# Altium schematic symbol library 21700_Bat.SchLib: 1 symbol
Pins are listed as number, name and electrical type; pins without a type are passive.

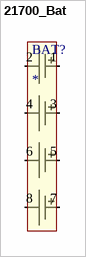
[diagram p0: symbol 21700_Bat]

## 21700_Bat
designator BAT?
footprint 21700_BAT
pins: 1 +1S, 2 -1S, 3 +2S, 4 -2S, 5 +3S, 6 -3S, 7 +4S, 8 -4S